# Altium footprint library SplitHE_Int.PcbLib: 42 footprints (part 1 of 3)
Each footprint in its own frame and in the unit in brackets; x right, y up, seen from the top. Pads: shape width x height; smd on the part's side, far side on the other; paste and mask are expansions set on the pad; w line width, h text height; cw(c..) or ccw(c..) is an arc to the next point about the centre after c.
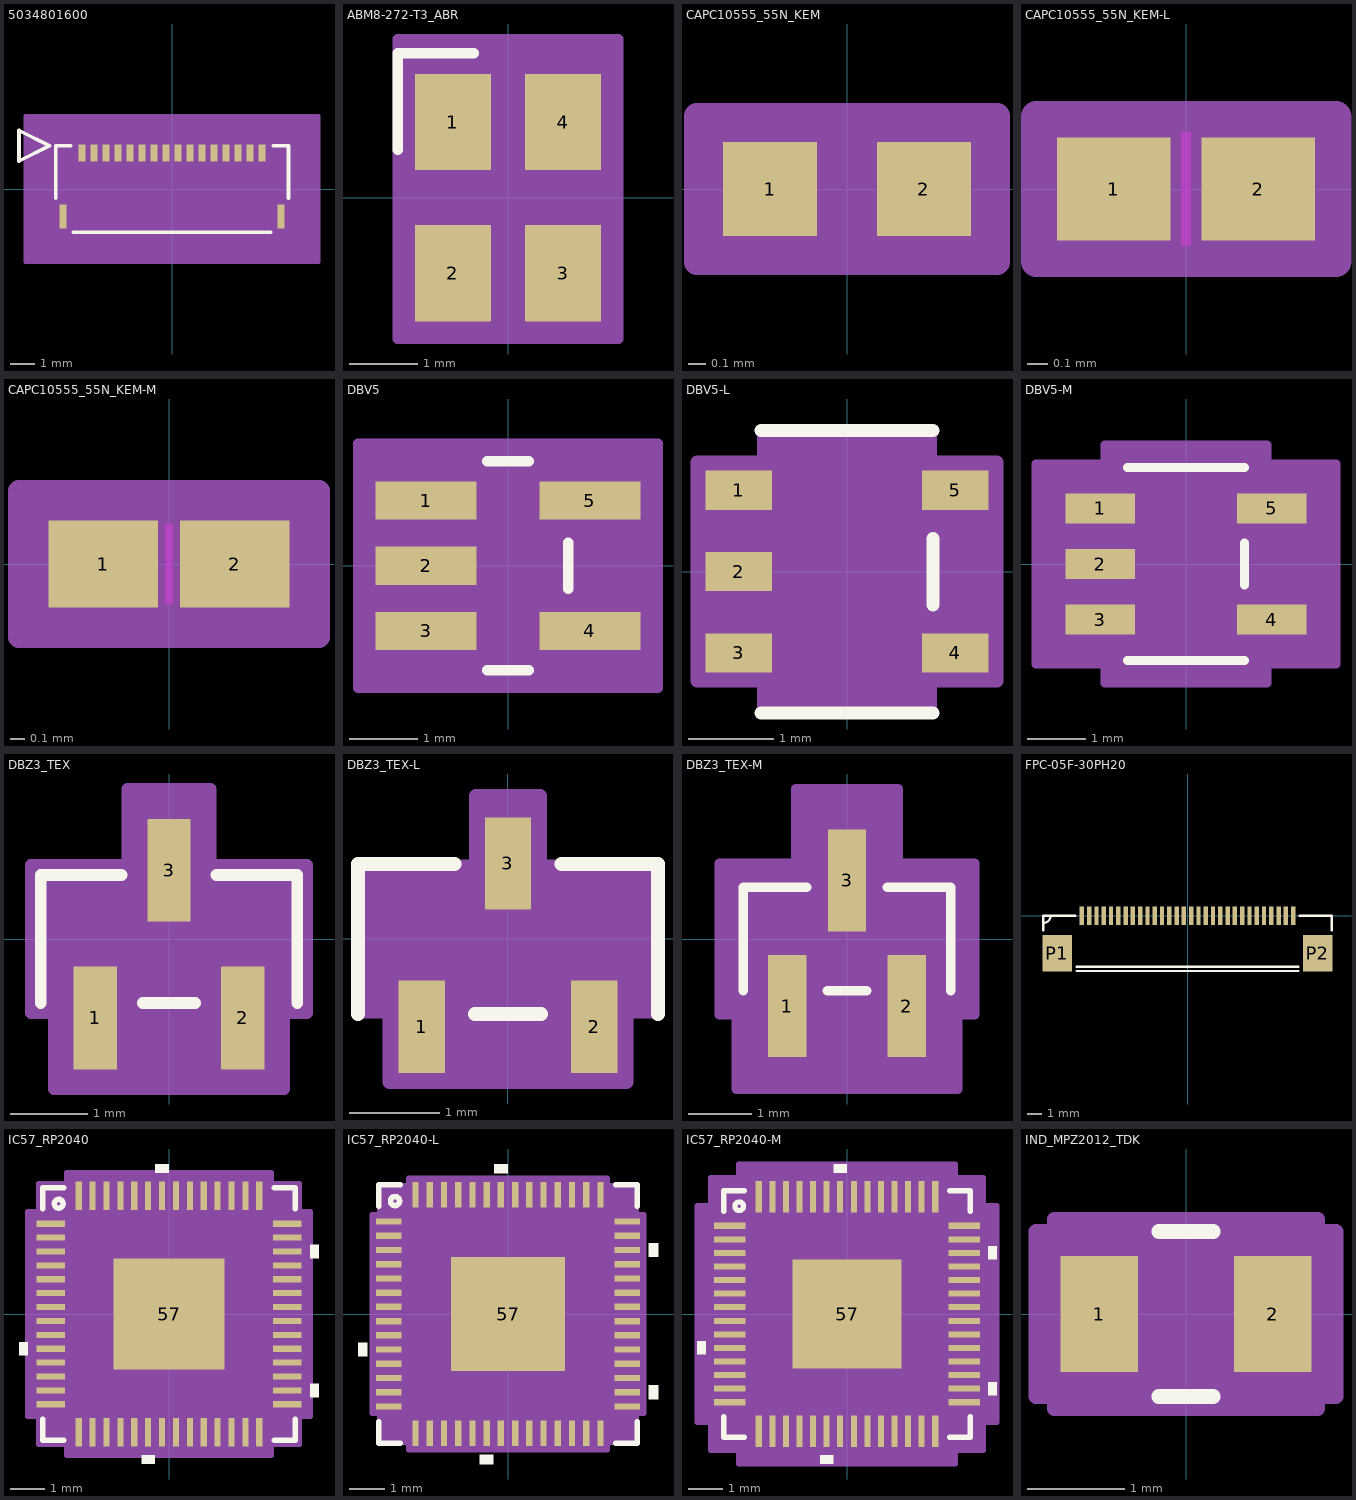
[diagram p0: the footprints below, top view; thin cyan lines are the x and y axes]

## 5034801600 [mm]
pads (18):
  rect 0.3x0.7 smd paste+0 mask+0.076: 1(-3.75,1.5) 2(-3.25,1.5) 3(-2.75,1.5) 4(-2.25,1.5) 5(-1.75,1.5) 6(-1.25,1.5) 7(-0.75,1.5) 8(-0.25,1.5) 9(0.25,1.5) 10(0.75,1.5) 11(1.25,1.5) 12(1.75,1.5) 13(2.25,1.5) 14(2.75,1.5) 15(3.25,1.5) 16(3.75,1.5)
  rect 0.3x1 smd paste+0 mask+0.076: P1(-4.54,-1.15) P2(4.54,-1.15)
Top Overlay:
  lines w0.152: -4.85,-0.373 -4.85,1.8 -4.22,1.8 ; -4.107,-1.8 4.107,-1.8 ; 4.22,1.8 4.85,1.8 4.85,-0.373 ; -6.374,1.165 -6.374,2.435 -5.104,1.8 -6.374,1.165
Mechanical 13:
  lines w0.127: -6.374,1.165 -6.374,2.435 -5.104,1.8 -6.374,1.165 ; -4.85,-1.8 4.85,-1.8 4.85,1.8 -4.85,1.8 -4.85,-1.8
Mechanical 15:
  region: 6.12,3.07 -6.12,3.07 -6.12,-3.07 6.12,-3.07
  lines w0.127: -6.12,-3.07 -6.12,3.07 6.12,3.07 6.12,-3.07 -6.12,-3.07

## ABM8-272-T3_ABR [mm]
pads (4):
  rect 1.1x1.4 smd paste+0 mask+0: 1(-0.8,1.1) 2(-0.8,-1.1) 3(0.8,-1.1) 4(0.8,1.1)
Top Overlay:
  lines w0.152: -1.6,0.7 -1.6,2.1 -0.5,2.1
Mechanical 13:
  circle w0: c-0.25,1.1 r0.076
  lines w0: -0.305,1.702 ccw(c0,1.702) 0.305,1.702
  lines w0.025: -1.346,-1.702 1.346,-1.702 1.346,1.702 -1.346,1.702 -1.346,-1.702
Mechanical 15:
  region: -1.6,-2.054 -1.604,-2.054 -1.604,2.054 -1.6,2.054 -1.6,2.308 1.6,2.308 1.6,2.054 1.604,2.054 1.604,-2.054 1.6,-2.054
  lines w0.152: -1.604,-2.054 -1.604,2.054 -1.6,2.054 -1.6,2.308 1.6,2.308 1.6,2.054 1.604,2.054 1.604,-2.054 1.6,-2.054 -1.6,-2.054 -1.604,-2.054
3D body "ABM8-272-T3_ABR.step": height 0.76, standoff 0, extent -1.346,-1.702 1.346,1.702

## CAPC10555_55N_KEM [mm]
pads (2):
  rect 0.553x0.55 smd paste+0 mask+0: 1(-0.452,0) 2(0.452,0)
Mechanical 13:
  lines w0.025: -0.525,-0.275 -0.525,0.275 ; -0.525,-0.275 -0.125,-0.275 -0.125,0.275 -0.525,0.275 ; -0.525,-0.275 0.525,-0.275 ; -0.525,-0.275 -0.525,0.275 ; -0.525,0.275 0.525,0.275 ; 0.525,-0.275 0.125,-0.275 0.125,0.275 0.525,0.275 ; 0.525,-0.275 0.525,0.275 ; 0.525,-0.275 0.525,0.275
Mechanical 15:
  region: 0.881,-0.427 -0.881,-0.427 -0.881,0.427 0.881,0.427
  lines w0.152: -0.881,-0.427 -0.881,0.427 0.881,0.427 0.881,-0.427 -0.881,-0.427
3D body "CAPC10555_55N_KEM.step": height 0.55, standoff 0, extent -0.525,-0.275 0.525,0.275

## CAPC10555_55N_KEM-L [mil]
pads (2):
  rect 21.72x19.65 smd paste+0 mask+0: 1(-13.81,0) 2(13.81,0)
Top Layer keep-out:
  region: -0.95,-8.83 -0.95,8.83 0.95,8.83 0.95,-8.83
Keep-Out Layer:
  region: -0.95,-10.83 -0.95,10.83 0.95,10.83 0.95,-10.83
Mechanical 13:
  lines w1: -20.67,-10.83 -20.67,10.83 ; -20.67,-10.83 20.67,-10.83 ; -20.67,-10.83 -4.92,-10.83 -4.92,10.83 -20.67,10.83 ; -20.67,-10.83 -20.67,10.83 ; -20.67,10.83 20.67,10.83 ; 20.67,-10.83 20.67,10.83 ; 20.67,-10.83 20.67,10.83 ; 20.67,-10.83 4.92,-10.83 4.92,10.83 20.67,10.83
Mechanical 15:
  region: 28.67,-13.83 -28.67,-13.83 -28.67,13.83 28.67,13.83
  lines w6: -28.67,-13.83 28.67,-13.83 28.67,13.83 -28.67,13.83 -28.67,-13.83
3D body "CAPC10555_55N_KEM.step": height 21.65, standoff 0, extent -20.67,-10.83 20.67,10.83

## CAPC10555_55N_KEM-M [mil]
pads (2):
  rect 29.72x23.65 smd paste+0 mask+0: 1(-17.81,0) 2(17.81,0)
Top Layer keep-out:
  region: -0.95,-8.83 -0.95,8.83 0.95,8.83 0.95,-8.83
Keep-Out Layer:
  region: -0.95,-10.83 -0.95,10.83 0.95,10.83 0.95,-10.83
Mechanical 13:
  lines w1: -20.67,-10.83 -20.67,10.83 ; -20.67,-10.83 20.67,-10.83 ; -20.67,-10.83 -4.92,-10.83 -4.92,10.83 -20.67,10.83 ; -20.67,-10.83 -20.67,10.83 ; -20.67,10.83 20.67,10.83 ; 20.67,-10.83 20.67,10.83 ; 20.67,-10.83 20.67,10.83 ; 20.67,-10.83 4.92,-10.83 4.92,10.83 20.67,10.83
Mechanical 15:
  region: 40.67,-19.83 -40.67,-19.83 -40.67,19.83 40.67,19.83
  lines w6: -40.67,-19.83 40.67,-19.83 40.67,19.83 -40.67,19.83 -40.67,-19.83
3D body "CAPC10555_55N_KEM.step": height 21.65, standoff 0, extent -20.67,-10.83 20.67,10.83

## DBV5 [mil]
pads (5):
  rect 58x22 smd paste-29 mask-29: 1(-47,37.4) 2(-47,0) 3(-47,-37.4) 4(47,-37.4) 5(47,37.4)
Top Overlay:
  lines w6: -11.91,-60 11.91,-60 ; -11.91,60 11.91,60 ; 34.5,-13.3 34.5,13.3
Mechanical 13:
  lines w0: -12,60 ccw(c0,60) 12,60
  lines w1: -59,-47.4 -34.5,-47.4 -34.5,-27.4 -59,-27.4 -59,-47.4 ; -59,-10 -34.5,-10 -34.5,10 -59,10 -59,-10 ; -59,27.4 -34.5,27.4 -34.5,47.4 -59,47.4 -59,27.4 ; -34.5,-60 -34.5,60 34.5,60 34.5,-60 -34.5,-60 ; 34.5,-47.4 59,-47.4 59,-27.4 34.5,-27.4 34.5,-47.4 ; 34.5,27.4 59,27.4 59,47.4 34.5,47.4 34.5,27.4
Mechanical 15:
  region: 86,-70 -86,-70 -86,70 86,70
  lines w6: -86,-70 86,-70 86,70 -86,70 -86,-70
3D body "DBV5.step": height 57.09, standoff 0, extent -59.02,-60 59.02,60

## DBV5-L [mil]
pads (5):
  rect 30.5x18 smd paste+0 mask+0: 1(-49.75,37.4) 2(-49.75,0) 3(-49.75,-37.4) 4(49.75,-37.4) 5(49.75,37.4)
Top Overlay:
  lines w6: -39.5,-65 39.5,-65 ; -39.5,65 39.5,65 ; 39.5,-15.3 39.5,15.3
Mechanical 13:
  lines w0: -12,60 ccw(c0,60) 12,60
  lines w1: -59,-47.4 -59,-27.4 -34.5,-27.4 -34.5,-47.4 -59,-47.4 ; -59,-10 -59,10 -34.5,10 -34.5,-10 -59,-10 ; -59,27.4 -59,47.4 -34.5,47.4 -34.5,27.4 -59,27.4 ; -34.5,-60 34.5,-60 34.5,60 -34.5,60 -34.5,-60 ; 34.5,-47.4 34.5,-27.4 59,-27.4 59,-47.4 34.5,-47.4 ; 34.5,27.4 34.5,47.4 59,47.4 59,27.4 34.5,27.4
  text "*" at -37,12.4 h50
Mechanical 15:
  region: 38.5,-64 -38.5,-64 -38.5,-50.4 -69,-50.4 -69,50.4 -38.5,50.4 -38.5,64 38.5,64 38.5,50.4 69,50.4 69,-50.4 38.5,-50.4
  lines w6: -69,-50.4 -38.5,-50.4 -38.5,-64 38.5,-64 38.5,-50.4 69,-50.4 69,50.4 38.5,50.4 38.5,64 -38.5,64 -38.5,50.4 -69,50.4 -69,-50.4
3D body "DBV5.step": height 57.09, standoff 0, extent -59.02,-60 59.02,60

## DBV5-M [mil]
pads (5):
  rect 46.5x20 smd paste+0 mask+0: 1(-57.75,37.4) 2(-57.75,0) 3(-57.75,-37.4) 4(57.75,-37.4) 5(57.75,37.4)
Top Overlay:
  lines w6: -39.5,-65 39.5,-65 ; -39.5,65 39.5,65 ; 39.5,-14.3 39.5,14.3
Mechanical 13:
  lines w0: -12,60 ccw(c0,60) 12,60
  lines w1: -59,-47.4 -34.5,-47.4 -34.5,-27.4 -59,-27.4 -59,-47.4 ; -59,-10 -34.5,-10 -34.5,10 -59,10 -59,-10 ; -59,27.4 -34.5,27.4 -34.5,47.4 -59,47.4 -59,27.4 ; -34.5,-60 -34.5,60 34.5,60 34.5,-60 -34.5,-60 ; 34.5,-47.4 59,-47.4 59,-27.4 34.5,-27.4 34.5,-47.4 ; 34.5,27.4 59,27.4 59,47.4 34.5,47.4 34.5,27.4
  text "*" at -37,14.4 h50
Mechanical 15:
  region: 54.5,-80 -54.5,-80 -54.5,-67.4 -101,-67.4 -101,67.4 -54.5,67.4 -54.5,80 54.5,80 54.5,67.4 101,67.4 101,-67.4 54.5,-67.4
  lines w6: -101,-67.4 -101,67.4 -54.5,67.4 -54.5,80 54.5,80 54.5,67.4 101,67.4 101,-67.4 54.5,-67.4 54.5,-80 -54.5,-80 -54.5,-67.4 -101,-67.4
3D body "DBV5.step": height 57.09, standoff 0, extent -59.02,-60 59.02,60

## DBZ3_TEX [mil]
pads (3):
  rect 22x52 smd paste+5.25 mask+5: 1(-37.4,-40) 2(37.4,-40) 3(0,34.75)
Top Overlay:
  lines w6: -65,-32.5 -65,32.5 -24.1,32.5 ; -13.3,-32.5 13.3,-32.5 ; 24.1,32.5 65,32.5 65,-32.5
Mechanical 13:
  circle w0: c-50,-17.5 r5
  lines w1: -60,-27.5 60,-27.5 60,27.5 -60,27.5 -60,-27.5 ; -47.4,-52 -47.4,-27.5 -27.4,-27.5 -27.4,-52 -47.4,-52 ; -10,27.5 10,27.5 10,52 -10,52 -10,27.5 ; 27.4,-52 27.4,-27.5 47.4,-27.5 47.4,-52 27.4,-52
Mechanical 15:
  region: -70,-37.5 -70,37.5 -21,37.5 -21,76 21,76 21,37.5 70,37.5 70,-37.5 58.4,-37.5 58.4,-76 -58.4,-76 -58.4,-37.5
  region: 60,-27.5 -60,-27.5 -60,27.5 60,27.5
  lines w6: -70,-37.5 -70,37.5 -21,37.5 -21,76 21,76 21,37.5 70,37.5 70,-37.5 58.4,-37.5 58.4,-76 -58.4,-76 -58.4,-37.5 -70,-37.5
3D body "DBZ3_TEX.step": height 44.09, standoff 0, extent -60,-52.01 60,52.01

## DBZ3_TEX-L [mil]
pads (3):
  rect 20x40 smd paste+5.25 mask+5: 1(-37.4,-38) 2(37.4,-38) 3(0,32.75)
Top Overlay:
  lines w6: -65,-32.5 -65,32.5 -23.1,32.5 ; -14.3,-32.5 14.3,-32.5 ; 23.1,32.5 65,32.5 65,-32.5
Mechanical 13:
  circle w0: c-50,-17.5 r5
  lines w1: -60,-27.5 60,-27.5 60,27.5 -60,27.5 -60,-27.5 ; -47.4,-52 -47.4,-27.5 -27.4,-27.5 -27.4,-52 -47.4,-52 ; -10,27.5 10,27.5 10,52 -10,52 -10,27.5 ; 27.4,-52 27.4,-27.5 47.4,-27.5 47.4,-52 27.4,-52
Mechanical 15:
  region: -64,-31.5 -64,31.5 -14,31.5 -14,62 14,62 14,31.5 64,31.5 64,-31.5 51.4,-31.5 51.4,-62 -51.4,-62 -51.4,-31.5
  region: 60,-27.5 -60,-27.5 -60,27.5 60,27.5
  lines w6: -64,-31.5 -64,31.5 -14,31.5 -14,62 14,62 14,31.5 64,31.5 64,-31.5 51.4,-31.5 51.4,-62 -51.4,-62 -51.4,-31.5 -64,-31.5
3D body "DBZ3_TEX.step": height 44.09, standoff 0, extent -60,-52.01 60,52.01

## DBZ3_TEX-M [mil]
pads (3):
  rect 24x64 smd paste+5.25 mask+5: 1(-37.4,-42) 2(37.4,-42) 3(0,36.75)
Top Overlay:
  lines w6: -65,-32.5 -65,32.5 -25.1,32.5 ; -12.3,-32.5 12.3,-32.5 ; 25.1,32.5 65,32.5 65,-32.5
Mechanical 13:
  circle w0: c-50,-17.5 r5
  lines w1: -60,-27.5 -60,27.5 60,27.5 60,-27.5 -60,-27.5 ; -47.4,-52 -27.4,-52 -27.4,-27.5 -47.4,-27.5 -47.4,-52 ; -10,27.5 -10,52 10,52 10,27.5 -10,27.5 ; 27.4,-52 47.4,-52 47.4,-27.5 27.4,-27.5 27.4,-52
Mechanical 15:
  region: 60,-27.5 -60,-27.5 -60,27.5 60,27.5
  region: -80,-47.5 -80,47.5 -32,47.5 -32,94 32,94 32,47.5 80,47.5 80,-47.5 69.4,-47.5 69.4,-94 -69.4,-94 -69.4,-47.5
  lines w6: -80,-47.5 -69.4,-47.5 -69.4,-94 69.4,-94 69.4,-47.5 80,-47.5 80,47.5 32,47.5 32,94 -32,94 -32,47.5 -80,47.5 -80,-47.5
3D body "DBZ3_TEX.step": height 44.09, standoff 0, extent -60,-52.01 60,52.01

## FPC-05F-30PH20 [mm]
pads (32):
  rect 0.3x1.25 smd mask+0: 1(-7.25,0) 2(-6.75,0) 3(-6.25,0) 4(-5.75,0) 5(-5.25,0) 6(-4.75,0) 7(-4.25,0) 8(-3.75,0) 9(-3.25,0) 10(-2.75,0) 11(-2.25,0) 12(-1.75,0) 13(-1.25,0) 14(-0.75,0) 15(-0.25,0) 16(0.25,0) 17(0.75,0) 18(1.25,0) 19(1.75,0) 20(2.25,0) 21(2.75,0) 22(3.25,0) 23(3.75,0) 24(4.25,0) 25(4.75,0) 26(5.25,0) 27(5.75,0) 28(6.25,0) 29(6.75,0) 30(7.25,0)
  rect 2x2.5 smd: P1(-8.94,-2.575) P2(8.94,-2.575)
Top Overlay:
  lines w0.152: -9.9,-1 -9.9,0 -7.7,0 ; -9.9,-0.5 ccw(c-9.9,0) -9.4,0 ; -7.6,-3.8 7.6,-3.8 ; -7.6,-3.5 7.6,-3.5 ; 7.7,0 9.9,0 9.9,-1

## IC57_RP2040 [mil]
pads (57):
  rect 32x7 smd paste+0 mask+0: 1(-134,102.36) 2(-134,86.61) 3(-134,70.87) 4(-134,55.12) 5(-134,39.37) 6(-134,23.62) 7(-134,7.87) 8(-134,-7.87) 9(-134,-23.62) 10(-134,-39.37) 11(-134,-55.12) 12(-134,-70.87) 13(-134,-86.61) 14(-134,-102.36) 29(134,-102.36) 30(134,-86.61) 31(134,-70.87) 32(134,-55.12) 33(134,-39.37) 34(134,-23.62) 35(134,-7.87) 36(134,7.87) 37(134,23.62) 38(134,39.37) 39(134,55.12) 40(134,70.87) 41(134,86.61) 42(134,102.36)
  rect 7x32 smd paste+0 mask+0: 15(-102.36,-134) 16(-86.61,-134) 17(-70.87,-134) 18(-55.12,-134) 19(-39.37,-134) 20(-23.62,-134) 21(-7.87,-134) 22(7.87,-134) 23(23.62,-134) 24(39.37,-134) 25(55.12,-134) 26(70.87,-134) 27(86.61,-134) 28(102.36,-134) 43(102.36,134) 44(86.61,134) 45(70.87,134) 46(55.12,134) 47(39.37,134) 48(23.62,134) 49(7.87,134) 50(-7.87,134) 51(-23.62,134) 52(-39.37,134) 53(-55.12,134) 54(-70.87,134) 55(-86.61,134) 56(-102.36,134)
  rect 126x126 smd paste-63 mask+0: 57(0,0)
Top Overlay:
  circle w6: c-125,125 r5
  region: -0.37,160 -15.37,160 -15.37,170 -0.37,170
  region: 160,78.37 170,78.37 170,63.37 160,63.37
  region: 160,-79.11 170,-79.11 170,-94.11 160,-94.11
  region: -16.12,-160 -31.12,-160 -31.12,-170 -16.12,-170
  region: -160,-31.87 -170,-31.87 -170,-46.87 -160,-46.87
  lines w6: -143,-118.96 -143,-143 -118.96,-143 ; -143,118.96 -143,143 -118.96,143 ; 118.96,-143 143,-143 143,-118.96 ; 118.96,143 143,143 143,118.96
Top Paste:
  region: 59.06,-3.94 3.94,-3.94 3.94,-59.06 59.06,-59.06
  region: 59.06,59.06 3.94,59.06 3.94,3.94 59.06,3.94
  region: -3.94,-3.94 -59.06,-3.94 -59.06,-59.06 -3.94,-59.06
  region: -3.94,59.06 -59.06,59.06 -59.06,3.94 -3.94,3.94
Mechanical 13:
  lines w1: -138,88 -88,138 ; -138,-138 -138,138 138,138 138,-138 -138,-138 ; -138,-106.86 -138,-97.86 -138,-106.86 ; -138,-91.11 -138,-82.11 -138,-91.11 ; -138,-75.37 -138,-66.37 -138,-75.37 ; -138,-59.62 -138,-50.62 -138,-59.62 ; -138,-43.87 -138,-34.87 -138,-43.87 ; -138,-28.12 -138,-19.12 -138,-28.12 ; -138,-12.37 -138,-3.37 -138,-12.37 ; -138,3.37 -138,12.37 -138,3.37 ; -138,19.12 -138,28.12 -138,19.12 ; -138,34.87 -138,43.87 -138,34.87 ; -138,50.62 -138,59.62 -138,50.62 ; -138,66.37 -138,75.37 -138,66.37 ; -138,82.11 -138,91.11 -138,82.11 ; -138,97.86 -138,106.86 -138,97.86 ; -106.86,-138 -97.86,-138 -106.86,-138 ; -106.86,138 -97.86,138 -106.86,138 ; -91.11,-138 -82.11,-138 -91.11,-138 ; -91.11,138 -82.11,138 -91.11,138 ; -75.37,-138 -66.37,-138 -75.37,-138 ; -75.37,138 -66.37,138 -75.37,138 ; -59.62,-138 -50.62,-138 -59.62,-138 ; -59.62,138 -50.62,138 -59.62,138 ; -43.87,-138 -34.87,-138 -43.87,-138 ; -43.87,138 -34.87,138 -43.87,138 ; -28.12,-138 -19.12,-138 -28.12,-138 ; -28.12,138 -19.12,138 -28.12,138 ; -12.37,-138 -3.37,-138 -12.37,-138 ; -12.37,138 -3.37,138 -12.37,138 ; 3.37,-138 12.37,-138 3.37,-138 ; 3.37,138 12.37,138 3.37,138 ; 19.12,-138 28.12,-138 19.12,-138 ; 19.12,138 28.12,138 19.12,138 ; 34.87,-138 43.87,-138 34.87,-138 ; 34.87,138 43.87,138 34.87,138 ; 50.62,-138 59.62,-138 50.62,-138 ; 50.62,138 59.62,138 50.62,138 ; 66.37,-138 75.37,-138 66.37,-138 ; 66.37,138 75.37,138 66.37,138 ; 82.11,-138 91.11,-138 82.11,-138 ; 82.11,138 91.11,138 82.11,138 ; 97.86,-138 106.86,-138 97.86,-138 ; 97.86,138 106.86,138 97.86,138 ; 138,-106.86 138,-97.86 138,-106.86 ; 138,-91.11 138,-82.11 138,-91.11 ; 138,-75.37 138,-66.37 138,-75.37 ; 138,-59.62 138,-50.62 138,-59.62 ; 138,-43.87 138,-34.87 138,-43.87 ; 138,-28.12 138,-19.12 138,-28.12 ; 138,-12.37 138,-3.37 138,-12.37 ; 138,3.37 138,12.37 138,3.37 ; 138,19.12 138,28.12 138,19.12 ; 138,34.87 138,43.87 138,34.87 ; 138,50.62 138,59.62 138,50.62 ; 138,66.37 138,75.37 138,66.37 ; 138,82.11 138,91.11 138,82.11 ; 138,97.86 138,106.86 138,97.86
  text "*" at -130.5,85.24 h50
Mechanical 15:
  region: -115.86,-148 -148,-148 -148,-115.86 -160,-115.86 -160,115.86 -148,115.86 -148,148 -115.86,148 -115.86,160 115.86,160 115.86,148 148,148 148,115.86 160,115.86 160,-115.86 148,-115.86 148,-148 115.86,-148 115.86,-160 -115.86,-160
  lines w6: -160,-115.86 -160,115.86 -148,115.86 -148,148 -115.86,148 -115.86,160 115.86,160 115.86,148 148,148 148,115.86 160,115.86 160,-115.86 148,-115.86 148,-148 115.86,-148 115.86,-160 -115.86,-160 -115.86,-148 -148,-148 -148,-115.86 -160,-115.86
3D body "IC57_RP2040.step": height 35.12, standoff 0, extent -137.99,-137.99 137.99,137.99

## IC57_RP2040-L [mil]
pads (57):
  rect 28x7 smd paste+0 mask+0: 1(-132,102.36) 2(-132,86.61) 3(-132,70.87) 4(-132,55.12) 5(-132,39.37) 6(-132,23.62) 7(-132,7.87) 8(-132,-7.87) 9(-132,-23.62) 10(-132,-39.37) 11(-132,-55.12) 12(-132,-70.87) 13(-132,-86.61) 14(-132,-102.36) 29(132,-102.36) 30(132,-86.61) 31(132,-70.87) 32(132,-55.12) 33(132,-39.37) 34(132,-23.62) 35(132,-7.87) 36(132,7.87) 37(132,23.62) 38(132,39.37) 39(132,55.12) 40(132,70.87) 41(132,86.61) 42(132,102.36)
  rect 7x28 smd paste+0 mask+0: 15(-102.36,-132) 16(-86.61,-132) 17(-70.87,-132) 18(-55.12,-132) 19(-39.37,-132) 20(-23.62,-132) 21(-7.87,-132) 22(7.87,-132) 23(23.62,-132) 24(39.37,-132) 25(55.12,-132) 26(70.87,-132) 27(86.61,-132) 28(102.36,-132) 43(102.36,132) 44(86.61,132) 45(70.87,132) 46(55.12,132) 47(39.37,132) 48(23.62,132) 49(7.87,132) 50(-7.87,132) 51(-23.62,132) 52(-39.37,132) 53(-55.12,132) 54(-70.87,132) 55(-86.61,132) 56(-102.36,132)
  rect 126x126 smd paste-63 mask+0: 57(0,0)
Top Overlay:
  circle w6: c-125,125 r5
  region: -156,-31.87 -166,-31.87 -166,-46.87 -156,-46.87
  region: -16.12,-156 -31.12,-156 -31.12,-166 -16.12,-166
  region: 156,-79.11 166,-79.11 166,-94.11 156,-94.11
  region: 156,78.37 166,78.37 166,63.37 156,63.37
  region: -0.37,156 -15.37,156 -15.37,166 -0.37,166
  lines w6: -143,-118.96 -143,-143 -118.96,-143 ; -143,118.96 -143,143 -118.96,143 ; 118.96,-143 143,-143 143,-118.96 ; 118.96,143 143,143 143,118.96
Top Paste:
  region: -3.94,59.06 -59.06,59.06 -59.06,3.94 -3.94,3.94
  region: -3.94,-3.94 -59.06,-3.94 -59.06,-59.06 -3.94,-59.06
  region: 59.06,59.06 3.94,59.06 3.94,3.94 59.06,3.94
  region: 59.06,-3.94 3.94,-3.94 3.94,-59.06 59.06,-59.06
Mechanical 13:
  lines w1: -138,88 -88,138 ; -138,-138 138,-138 138,138 -138,138 -138,-138 ; -138,-106.86 -138,-97.86 -138,-106.86 ; -138,-91.11 -138,-82.11 -138,-91.11 ; -138,-75.37 -138,-66.37 -138,-75.37 ; -138,-59.62 -138,-50.62 -138,-59.62 ; -138,-43.87 -138,-34.87 -138,-43.87 ; -138,-28.12 -138,-19.12 -138,-28.12 ; -138,-12.37 -138,-3.37 -138,-12.37 ; -138,3.37 -138,12.37 -138,3.37 ; -138,19.12 -138,28.12 -138,19.12 ; -138,34.87 -138,43.87 -138,34.87 ; -138,50.62 -138,59.62 -138,50.62 ; -138,66.37 -138,75.37 -138,66.37 ; -138,82.11 -138,91.11 -138,82.11 ; -138,97.86 -138,106.86 -138,97.86 ; -106.86,-138 -97.86,-138 -106.86,-138 ; -106.86,138 -97.86,138 -106.86,138 ; -91.11,-138 -82.11,-138 -91.11,-138 ; -91.11,138 -82.11,138 -91.11,138 ; -75.37,-138 -66.37,-138 -75.37,-138 ; -75.37,138 -66.37,138 -75.37,138 ; -59.62,-138 -50.62,-138 -59.62,-138 ; -59.62,138 -50.62,138 -59.62,138 ; -43.87,-138 -34.87,-138 -43.87,-138 ; -43.87,138 -34.87,138 -43.87,138 ; -28.12,-138 -19.12,-138 -28.12,-138 ; -28.12,138 -19.12,138 -28.12,138 ; -12.37,-138 -3.37,-138 -12.37,-138 ; -12.37,138 -3.37,138 -12.37,138 ; 3.37,-138 12.37,-138 3.37,-138 ; 3.37,138 12.37,138 3.37,138 ; 19.12,-138 28.12,-138 19.12,-138 ; 19.12,138 28.12,138 19.12,138 ; 34.87,-138 43.87,-138 34.87,-138 ; 34.87,138 43.87,138 34.87,138 ; 50.62,-138 59.62,-138 50.62,-138 ; 50.62,138 59.62,138 50.62,138 ; 66.37,-138 75.37,-138 66.37,-138 ; 66.37,138 75.37,138 66.37,138 ; 82.11,-138 91.11,-138 82.11,-138 ; 82.11,138 91.11,138 82.11,138 ; 97.86,-138 106.86,-138 97.86,-138 ; 97.86,138 106.86,138 97.86,138 ; 138,-106.86 138,-97.86 138,-106.86 ; 138,-91.11 138,-82.11 138,-91.11 ; 138,-75.37 138,-66.37 138,-75.37 ; 138,-59.62 138,-50.62 138,-59.62 ; 138,-43.87 138,-34.87 138,-43.87 ; 138,-28.12 138,-19.12 138,-28.12 ; 138,-12.37 138,-3.37 138,-12.37 ; 138,3.37 138,12.37 138,3.37 ; 138,19.12 138,28.12 138,19.12 ; 138,34.87 138,43.87 138,34.87 ; 138,50.62 138,59.62 138,50.62 ; 138,66.37 138,75.37 138,66.37 ; 138,82.11 138,91.11 138,82.11 ; 138,97.86 138,106.86 138,97.86
  text "*" at -130.5,85.24 h50
Mechanical 15:
  region: -109.86,-142 -142,-142 -142,-109.86 -150,-109.86 -150,109.86 -142,109.86 -142,142 -109.86,142 -109.86,150 109.86,150 109.86,142 142,142 142,109.86 150,109.86 150,-109.86 142,-109.86 142,-142 109.86,-142 109.86,-150 -109.86,-150
  lines w6: -150,-109.86 -142,-109.86 -142,-142 -109.86,-142 -109.86,-150 109.86,-150 109.86,-142 142,-142 142,-109.86 150,-109.86 150,109.86 142,109.86 142,142 109.86,142 109.86,150 -109.86,150 -109.86,142 -142,142 -142,109.86 -150,109.86 -150,-109.86
3D body "IC57_RP2040.step": height 35.12, standoff 0, extent -137.99,-137.99 137.99,137.99

## IC57_RP2040-M [mil]
pads (57):
  rect 36x7 smd paste+0 mask+0: 1(-136,102.36) 2(-136,86.61) 3(-136,70.87) 4(-136,55.12) 5(-136,39.37) 6(-136,23.62) 7(-136,7.87) 8(-136,-7.87) 9(-136,-23.62) 10(-136,-39.37) 11(-136,-55.12) 12(-136,-70.87) 13(-136,-86.61) 14(-136,-102.36) 29(136,-102.36) 30(136,-86.61) 31(136,-70.87) 32(136,-55.12) 33(136,-39.37) 34(136,-23.62) 35(136,-7.87) 36(136,7.87) 37(136,23.62) 38(136,39.37) 39(136,55.12) 40(136,70.87) 41(136,86.61) 42(136,102.36)
  rect 7x36 smd paste+0 mask+0: 15(-102.36,-136) 16(-86.61,-136) 17(-70.87,-136) 18(-55.12,-136) 19(-39.37,-136) 20(-23.62,-136) 21(-7.87,-136) 22(7.87,-136) 23(23.62,-136) 24(39.37,-136) 25(55.12,-136) 26(70.87,-136) 27(86.61,-136) 28(102.36,-136) 43(102.36,136) 44(86.61,136) 45(70.87,136) 46(55.12,136) 47(39.37,136) 48(23.62,136) 49(7.87,136) 50(-7.87,136) 51(-23.62,136) 52(-39.37,136) 53(-55.12,136) 54(-70.87,136) 55(-86.61,136) 56(-102.36,136)
  rect 126x126 smd paste-63 mask+0: 57(0,0)
Top Overlay:
  circle w6: c-125,125 r5
  region: -0.37,164 -15.37,164 -15.37,174 -0.37,174
  region: 164,78.37 174,78.37 174,63.37 164,63.37
  region: 164,-79.11 174,-79.11 174,-94.11 164,-94.11
  region: -16.12,-164 -31.12,-164 -31.12,-174 -16.12,-174
  region: -164,-31.87 -174,-31.87 -174,-46.87 -164,-46.87
  lines w6: -143,-118.96 -143,-143 -118.96,-143 ; -143,118.96 -143,143 -118.96,143 ; 118.96,-143 143,-143 143,-118.96 ; 118.96,143 143,143 143,118.96
Top Paste:
  region: 59.06,-3.94 3.94,-3.94 3.94,-59.06 59.06,-59.06
  region: 59.06,59.06 3.94,59.06 3.94,3.94 59.06,3.94
  region: -3.94,-3.94 -59.06,-3.94 -59.06,-59.06 -3.94,-59.06
  region: -3.94,59.06 -59.06,59.06 -59.06,3.94 -3.94,3.94
Mechanical 13:
  lines w1: -138,88 -88,138 ; -138,-138 -138,138 138,138 138,-138 -138,-138 ; -138,-106.86 -138,-97.86 -138,-106.86 ; -138,-91.11 -138,-82.11 -138,-91.11 ; -138,-75.37 -138,-66.37 -138,-75.37 ; -138,-59.62 -138,-50.62 -138,-59.62 ; -138,-43.87 -138,-34.87 -138,-43.87 ; -138,-28.12 -138,-19.12 -138,-28.12 ; -138,-12.37 -138,-3.37 -138,-12.37 ; -138,3.37 -138,12.37 -138,3.37 ; -138,19.12 -138,28.12 -138,19.12 ; -138,34.87 -138,43.87 -138,34.87 ; -138,50.62 -138,59.62 -138,50.62 ; -138,66.37 -138,75.37 -138,66.37 ; -138,82.11 -138,91.11 -138,82.11 ; -138,97.86 -138,106.86 -138,97.86 ; -106.86,-138 -97.86,-138 -106.86,-138 ; -106.86,138 -97.86,138 -106.86,138 ; -91.11,-138 -82.11,-138 -91.11,-138 ; -91.11,138 -82.11,138 -91.11,138 ; -75.37,-138 -66.37,-138 -75.37,-138 ; -75.37,138 -66.37,138 -75.37,138 ; -59.62,-138 -50.62,-138 -59.62,-138 ; -59.62,138 -50.62,138 -59.62,138 ; -43.87,-138 -34.87,-138 -43.87,-138 ; -43.87,138 -34.87,138 -43.87,138 ; -28.12,-138 -19.12,-138 -28.12,-138 ; -28.12,138 -19.12,138 -28.12,138 ; -12.37,-138 -3.37,-138 -12.37,-138 ; -12.37,138 -3.37,138 -12.37,138 ; 3.37,-138 12.37,-138 3.37,-138 ; 3.37,138 12.37,138 3.37,138 ; 19.12,-138 28.12,-138 19.12,-138 ; 19.12,138 28.12,138 19.12,138 ; 34.87,-138 43.87,-138 34.87,-138 ; 34.87,138 43.87,138 34.87,138 ; 50.62,-138 59.62,-138 50.62,-138 ; 50.62,138 59.62,138 50.62,138 ; 66.37,-138 75.37,-138 66.37,-138 ; 66.37,138 75.37,138 66.37,138 ; 82.11,-138 91.11,-138 82.11,-138 ; 82.11,138 91.11,138 82.11,138 ; 97.86,-138 106.86,-138 97.86,-138 ; 97.86,138 106.86,138 97.86,138 ; 138,-106.86 138,-97.86 138,-106.86 ; 138,-91.11 138,-82.11 138,-91.11 ; 138,-75.37 138,-66.37 138,-75.37 ; 138,-59.62 138,-50.62 138,-59.62 ; 138,-43.87 138,-34.87 138,-43.87 ; 138,-28.12 138,-19.12 138,-28.12 ; 138,-12.37 138,-3.37 138,-12.37 ; 138,3.37 138,12.37 138,3.37 ; 138,19.12 138,28.12 138,19.12 ; 138,34.87 138,43.87 138,34.87 ; 138,50.62 138,59.62 138,50.62 ; 138,66.37 138,75.37 138,66.37 ; 138,82.11 138,91.11 138,82.11 ; 138,97.86 138,106.86 138,97.86
  text "*" at -130.5,85.24 h50
Mechanical 15:
  region: -125.86,-158 -158,-158 -158,-125.86 -174,-125.86 -174,125.86 -158,125.86 -158,158 -125.86,158 -125.86,174 125.86,174 125.86,158 158,158 158,125.86 174,125.86 174,-125.86 158,-125.86 158,-158 125.86,-158 125.86,-174 -125.86,-174
  lines w6: -174,-125.86 -174,125.86 -158,125.86 -158,158 -125.86,158 -125.86,174 125.86,174 125.86,158 158,158 158,125.86 174,125.86 174,-125.86 158,-125.86 158,-158 125.86,-158 125.86,-174 -125.86,-174 -125.86,-158 -158,-158 -158,-125.86 -174,-125.86
3D body "IC57_RP2040.step": height 35.12, standoff 0, extent -137.99,-137.99 137.99,137.99

## IND_MPZ2012_TDK [mil]
pads (2):
  rect 31.5x47 smd paste+0 mask+0: 1(-35.25,0) 2(35.25,0)
Top Overlay:
  lines w6: -11.04,-33.5 11.04,-33.5 ; -11.04,33.5 11.04,33.5
Mechanical 13:
  circle w0: c-40.5,0 r3
  lines w1: -43.5,-28.5 -43.5,28.5 43.5,28.5 43.5,-28.5 -43.5,-28.5
Mechanical 15:
  region: -53.5,-33.5 -61,-33.5 -61,33.5 -53.5,33.5 -53.5,38.5 53.5,38.5 53.5,33.5 61,33.5 61,-33.5 53.5,-33.5 53.5,-38.5 -53.5,-38.5
  lines w6: -61,-33.5 -53.5,-33.5 -53.5,-38.5 53.5,-38.5 53.5,-33.5 61,-33.5 61,33.5 53.5,33.5 53.5,38.5 -53.5,38.5 -53.5,33.5 -61,33.5 -61,-33.5
3D body "IND_MPZ2012_TDK.step": height 40.98, standoff 0, extent -43.5,-28.58 43.5,28.58